# Altium footprint library TPS62361BYZHR.PcbLib: 2 footprints
Each footprint in its own frame and in the unit in brackets; x right, y up, seen from the top. Pads: shape width x height; smd on the part's side, far side on the other; paste and mask are expansions set on the pad; w line width, h text height; cw(c..) or ccw(c..) is an arc to the next point about the centre after c.
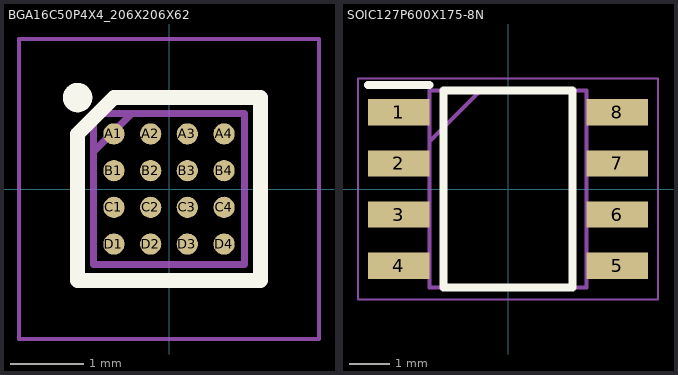
[diagram p0: the footprints below, top view; thin cyan lines are the x and y axes]

## BGA16C50P4X4_206X206X62 [mm]
pads (16):
  round 0.29 smd: A1(-0.75,0.75) A2(-0.25,0.75) A3(0.25,0.75) A4(0.75,0.75) B1(-0.75,0.25) B2(-0.25,0.25) B3(0.25,0.25) B4(0.75,0.25) C1(-0.75,-0.25) C2(-0.25,-0.25) C3(0.25,-0.25) C4(0.75,-0.25) D1(-0.75,-0.75) D2(-0.25,-0.75) D3(0.25,-0.75) D4(0.75,-0.75)
Top Overlay:
  circle w0.2: c-1.245,1.245 r0.1
  lines w0.2: -1.245,-1.245 1.245,-1.245 1.245,1.245 -0.75,1.245 -1.245,0.75 -1.245,-1.245
Mechanical 13:
  lines w0.1: -1.028,0.506 -0.506,1.028 ; -1.028,-1.028 1.028,-1.028 1.028,1.028 -1.028,1.028 -1.028,-1.028
Mechanical 15:
  lines w0.05: -2.043,-2.043 2.043,-2.043 2.043,2.043 -2.043,2.043 -2.043,-2.043
3D body "TPS62361BYZHR.stp": height 0.63, standoff 0, extent -1.028,-1.028 1.028,1.028

## SOIC127P600X175-8N [mm]
pads (8):
  rect 1.525x0.65 smd: 1(-2.712,1.905) 2(-2.712,0.635) 3(-2.712,-0.635) 4(-2.712,-1.905) 5(2.712,-1.905) 6(2.712,-0.635) 7(2.712,0.635) 8(2.712,1.905)
Top Overlay:
  lines w0.2: -3.475,2.58 -1.95,2.58 ; -1.6,-2.45 1.6,-2.45 1.6,2.45 -1.6,2.45 -1.6,-2.45
Mechanical 13:
  lines w0.1: -1.95,1.18 -0.68,2.45 ; -1.95,-2.45 1.95,-2.45 1.95,2.45 -1.95,2.45 -1.95,-2.45
Mechanical 15:
  lines w0.05: -3.725,-2.75 3.725,-2.75 3.725,2.75 -3.725,2.75 -3.725,-2.75
3D body "NE555DR.stp": height 1.75, standoff 0, extent -3,-2.45 3,2.45